# EAGLE library part 690357101272 (library WR-MM)
WR-MM Male Connector w/o Latch & w. Polarization Material Properties Insulator Material PBT Insulator Flammability Rating UL94 V-0 Insulator Color Red Contact Material Phosphor Bronze Contact Plating Matte Tin over Nickel Contact Type Stamped Packaging Properties cULus Approval E323964 Packaging Tube General Information Operating Temperature -40 °C up to +105 °C Pitch 2.54 mm Gender Male Electrical Properties Working Voltage 250 V (AC) Withstanding Voltage 500 V (AC) Contact Resistance 10 mΩ RISO 1000 MΩ <https://www.we-online.com/components/media/o33157v209%2069035710xx72_Multi-parts.jpg> Details see: www.we-online.com/en/components/products/MM_1_27_MALE_CONNECTOR_W_O_LATCH_AND_WITH_POLARIZATION_69035710XX72 <www.we-online.com/catalog/MM_1_27_MALE_CONNECTOR_W_O_LATCH_AND_WITH_POLARIZATION_69035710XX72/?utm_source=eagle_model&utm_medium=description_link&utm_campaign=eisos_eagle> Updated by Ella 2025-02-28 2025 (C) Würth Elektronik
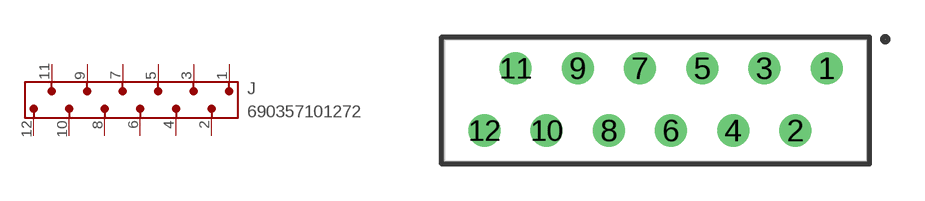
[diagram p3: symbol with the pads of 690357101272; footprint 690357101272]

Designator prefix J

## 690357101272 (DATASHEET-URL: https://www.we-online.com/redexpert/spec/690357101272?ae; GENDER: Male; IR: 1.5A; PACKAGING: Tube; PART-NUMBER: 690357101272; PINS: 12; PITCH: 2.54; TYPE: Straight; VALUE: 690357101272)  [690357101272]
1  1  pas
2  2  pas
3  3  pas
4  4  pas
5  5  pas
6  6  pas
7  7  pas
8  8  pas
9  9  pas
10  10  pas
11  11  pas
12  12  pas

## Footprint 690357101272 (pad centres in mm)
WR-MM Male Connector w/o Latch & w. Polarization, 12 Pins
drill 0.8: 1 6.985,1.315; 2 5.715,-1.225; 3 4.445,1.315; 4 3.175,-1.225; 5 1.905,1.315; 6 0.635,-1.225; 7 -0.635,1.315; 8 -1.905,-1.225; 9 -3.175,1.315; 10 -4.445,-1.225; 11 -5.715,1.315; 12 -6.985,-1.225